# EAGLE library part 74HC4538D,652 (library NXP_By_element14_Batch_1)
Dual retriggerable precision monostable multivibrator
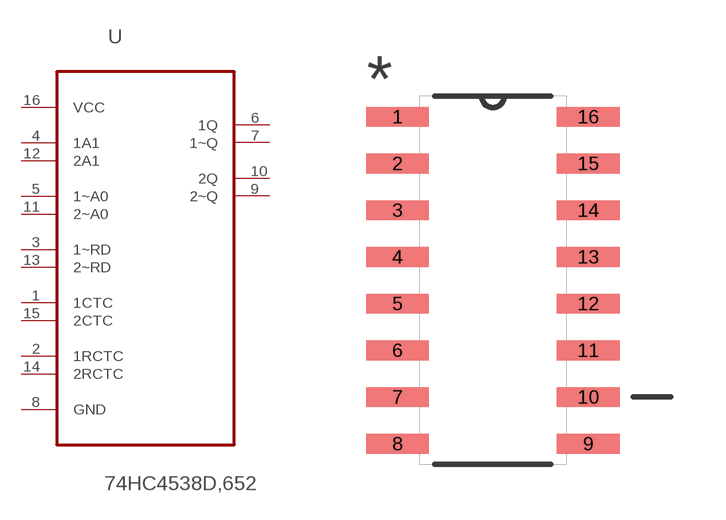
[diagram p135: symbol with the pads of SOIC127P600X175-16N; footprint SOIC127P600X175-16N]

Designator prefix U

## 74HC4538D,652 (MPN: 74HC4538D,652; OC_FARNELL: 1868629; OC_NEWARK: 71R2610; PACKAGE: SOIC-16; SUPPLIER: NXP)  [SOIC127P600X175-16N]
1  1CTC  in
2  1RCTC  in
3  1~RD  in
4  1A1  in
5  1~A0  in
6  1Q  out
7  1~Q  out
8  GND  pas
9  2~Q  out
10  2Q  out
11  2~A0  in
12  2A1  in
13  2~RD  in
14  2RCTC  in
15  2CTC  in
16  VCC  pwr

## Footprint SOIC127P600X175-16N (pad centres in mm)
smd 1.702 x 0.533: 1 -2.591,4.445; 2 -2.591,3.175; 3 -2.591,1.905; 4 -2.591,0.635; 5 -2.591,-0.635; 6 -2.591,-1.905; 7 -2.591,-3.175; 8 -2.591,-4.445; 9 2.591,-4.445; 10 2.591,-3.175; 11 2.591,-1.905; 12 2.591,-0.635; 13 2.591,0.635; 14 2.591,1.905; 15 2.591,3.175; 16 2.591,4.445